# EAGLE library part F7175 (library chip)
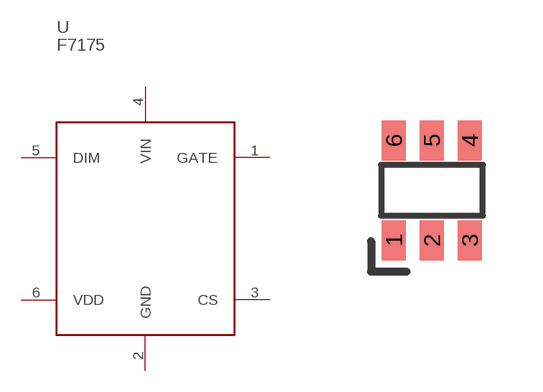
[diagram p9: symbol with the pads of SOT-23-6; footprint SOT-23-6]

Designator prefix U

## F7175  [SOT-23-6]
1  GATE  out
2  GND  pas
3  CS  pas
4  VIN  pwr
5  DIM  in
6  VDD  sup

## Footprint SOT-23-6 (pad centres in mm)
smd 0.6 x 1: 1 -0.95,-1.25; 2 0,-1.25; 3 0.95,-1.25; 4 0.95,1.25; 5 0,1.25; 6 -0.95,1.25